# Altium schematic symbol library Hole.SchLib: 7 symbols
Pins are listed as number, name and electrical type; pins without a type are passive.

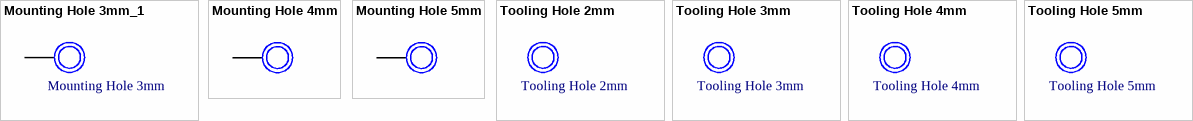
[diagram p0: symbols Mounting Hole 3mm_1 to Tooling Hole 5mm]

## Mounting Hole 3mm_1
designator H?, comment Mounting Hole 3mm  (no BOM)
footprint 3mm with via
pins: 0

## Mounting Hole 4mm
designator H?  (value not drawn)  (no BOM)
footprint 4mm with via
pins: 0

## Mounting Hole 5mm
designator H?  (value not drawn)  (no BOM)
footprint 5mm with via
pins: 0

## Tooling Hole 2mm
designator H?  (no BOM)
footprint 2mm

## Tooling Hole 3mm
designator H?  (no BOM)
footprint 3mm

## Tooling Hole 4mm
designator H?  (no BOM)
footprint 4mm

## Tooling Hole 5mm
designator H?  (no BOM)
footprint 5mm